# Altium schematic symbol library SJA1105RELY.SchLib: 1 symbol
Pins are listed as number, name and electrical type; pins without a type are passive.

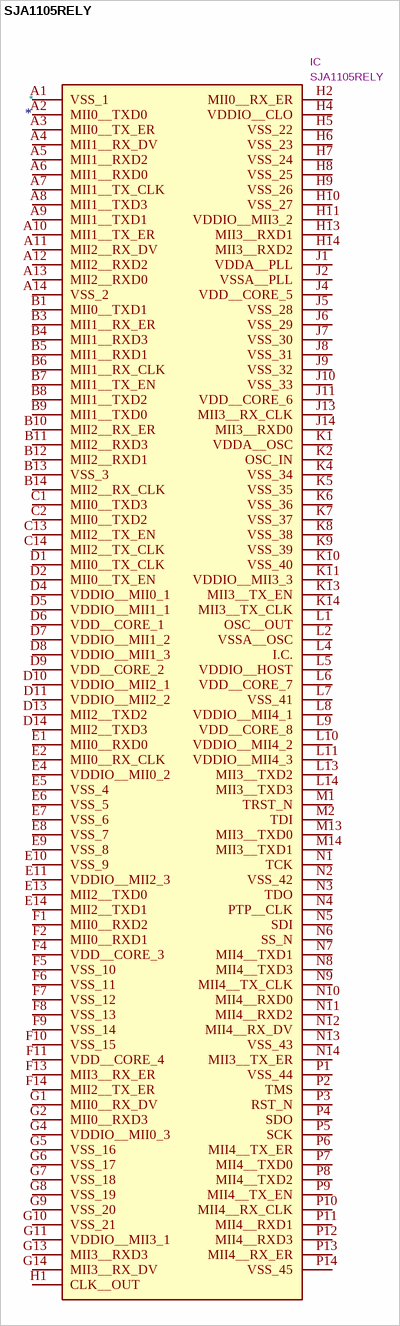
[diagram p0: symbol SJA1105RELY]

## SJA1105RELY
designator *  value SJA1105RELY  Reference: IC
Manufacturer_Name: NXP; ki_description: Ethernet ICs Five- Ports AVB Automotive Ethernet Switch with SGMII support; Footprint: BGA159C80P14X14_1200X1200X150; Datasheet: http://www.nxp.com/docs/en/data-sheet/SJA1105PQRS_SDS.pdf; Height: 1.5; Manufacturer_Part_Number: SJA1105RELY; Mouser Part Number: 771-SJA1105RELY; Mouser Price/Stock: https://www.mouser.co.uk/ProductDetail/NXP-Semiconductors/SJA1105RELY?qs=f9yNj16SXrJnoq53L7Z6RQ%3D%3D; Arrow Part Number: SJA1105RELY; Arrow Price/Stock: https://www.arrow.com/en/products/sja1105rely/nxp-semiconductors?region=nac
pins: A1 VSS_1, A2 MII0__TXD0, A3 MII0__TX_ER, A4 MII1__RX_DV, A5 MII1__RXD2, A6 MII1__RXD0, A7 MII1__TX_CLK, A8 MII1__TXD3, A9 MII1__TXD1, A10 MII1__TX_ER, A11 MII2__RX_DV, A12 MII2__RXD2, A13 MII2__RXD0, A14 VSS_2, B1 MII0__TXD1, B3 MII1__RX_ER, B4 MII1__RXD3, B5 MII1__RXD1, B6 MII1__RX_CLK, B7 MII1__TX_EN, B8 MII1__TXD2, B9 MII1__TXD0, B10 MII2__RX_ER, B11 MII2__RXD3, B12 MII2__RXD1, B13 VSS_3, B14 MII2__RX_CLK, C1 MII0__TXD3, C2 MII0__TXD2, C13 MII2__TX_EN, C14 MII2__TX_CLK, D1 MII0__TX_CLK, D2 MII0__TX_EN, D4 VDDIO__MII0_1, D5 VDDIO__MII1_1, D6 VDD__CORE_1, D7 VDDIO__MII1_2, D8 VDDIO__MII1_3, D9 VDD__CORE_2, D10 VDDIO__MII2_1, D11 VDDIO__MII2_2, D13 MII2__TXD2, D14 MII2__TXD3, E1 MII0__RXD0, E2 MII0__RX_CLK, E4 VDDIO__MII0_2, E5 VSS_4, E6 VSS_5, E7 VSS_6, E8 VSS_7, E9 VSS_8, E10 VSS_9, E11 VDDIO__MII2_3, E13 MII2__TXD0, E14 MII2__TXD1, F1 MII0__RXD2, F2 MII0__RXD1, F4 VDD__CORE_3, F5 VSS_10, F6 VSS_11, F7 VSS_12, F8 VSS_13, F9 VSS_14, F10 VSS_15, F11 VDD__CORE_4, F13 MII3__RX_ER, F14 MII2__TX_ER, G1 MII0__RX_DV, G2 MII0__RXD3, G4 VDDIO__MII0_3, G5 VSS_16, G6 VSS_17, G7 VSS_18, G8 VSS_19, G9 VSS_20, G10 VSS_21, G11 VDDIO__MII3_1, G13 MII3__RXD3, G14 MII3__RX_DV, H1 CLK__OUT, H2 MII0__RX_ER, H4 VDDIO__CLO, H5 VSS_22, H6 VSS_23, H7 VSS_24, H8 VSS_25, H9 VSS_26, H10 VSS_27, H11 VDDIO__MII3_2, H13 MII3__RXD1, H14 MII3__RXD2, J1 VDDA__PLL, J2 VSSA__PLL, J4 VDD__CORE_5, J5 VSS_28, J6 VSS_29, J7 VSS_30, J8 VSS_31, J9 VSS_32, J10 VSS_33, J11 VDD__CORE_6, J13 MII3__RX_CLK, J14 MII3__RXD0, K1 VDDA__OSC, K2 OSC_IN, K4 VSS_34, K5 VSS_35, K6 VSS_36, K7 VSS_37, K8 VSS_38, K9 VSS_39, K10 VSS_40, K11 VDDIO__MII3_3, K13 MII3__TX_EN, K14 MII3__TX_CLK, L1 OSC__OUT, L2 VSSA__OSC, L4 I.C., L5 VDDIO__HOST, L6 VDD__CORE_7, L7 VSS_41, L8 VDDIO__MII4_1, L9 VDD__CORE_8, L10 VDDIO__MII4_2, L11 VDDIO__MII4_3, L13 MII3__TXD2, L14 MII3__TXD3, M1 TRST_N, M2 TDI, M13 MII3__TXD0, M14 MII3__TXD1, N1 TCK, N2 VSS_42, N3 TDO, N4 PTP__CLK, N5 SDI, N6 SS_N, N7 MII4__TXD1, N8 MII4__TXD3, N9 MII4__TX_CLK, N10 MII4__RXD0, N11 MII4__RXD2, N12 MII4__RX_DV, N13 VSS_43, N14 MII3__TX_ER, P1 VSS_44, P2 TMS, P3 RST_N, P4 SDO, P5 SCK, P6 MII4__TX_ER, P7 MII4__TXD0, P8 MII4__TXD2, P9 MII4__TX_EN, P10 MII4__RX_CLK, P11 MII4__RXD1, P12 MII4__RXD3, P13 MII4__RX_ER, P14 VSS_45